# Altium footprint library DIP-CN  0607.PcbLib: 329 footprints (part 6 of 21)
Each footprint in its own frame and in the unit in brackets; x right, y up, seen from the top. Pads: shape width x height; smd on the part's side, far side on the other; paste and mask are expansions set on the pad; w line width, h text height; cw(c..) or ccw(c..) is an arc to the next point about the centre after c.
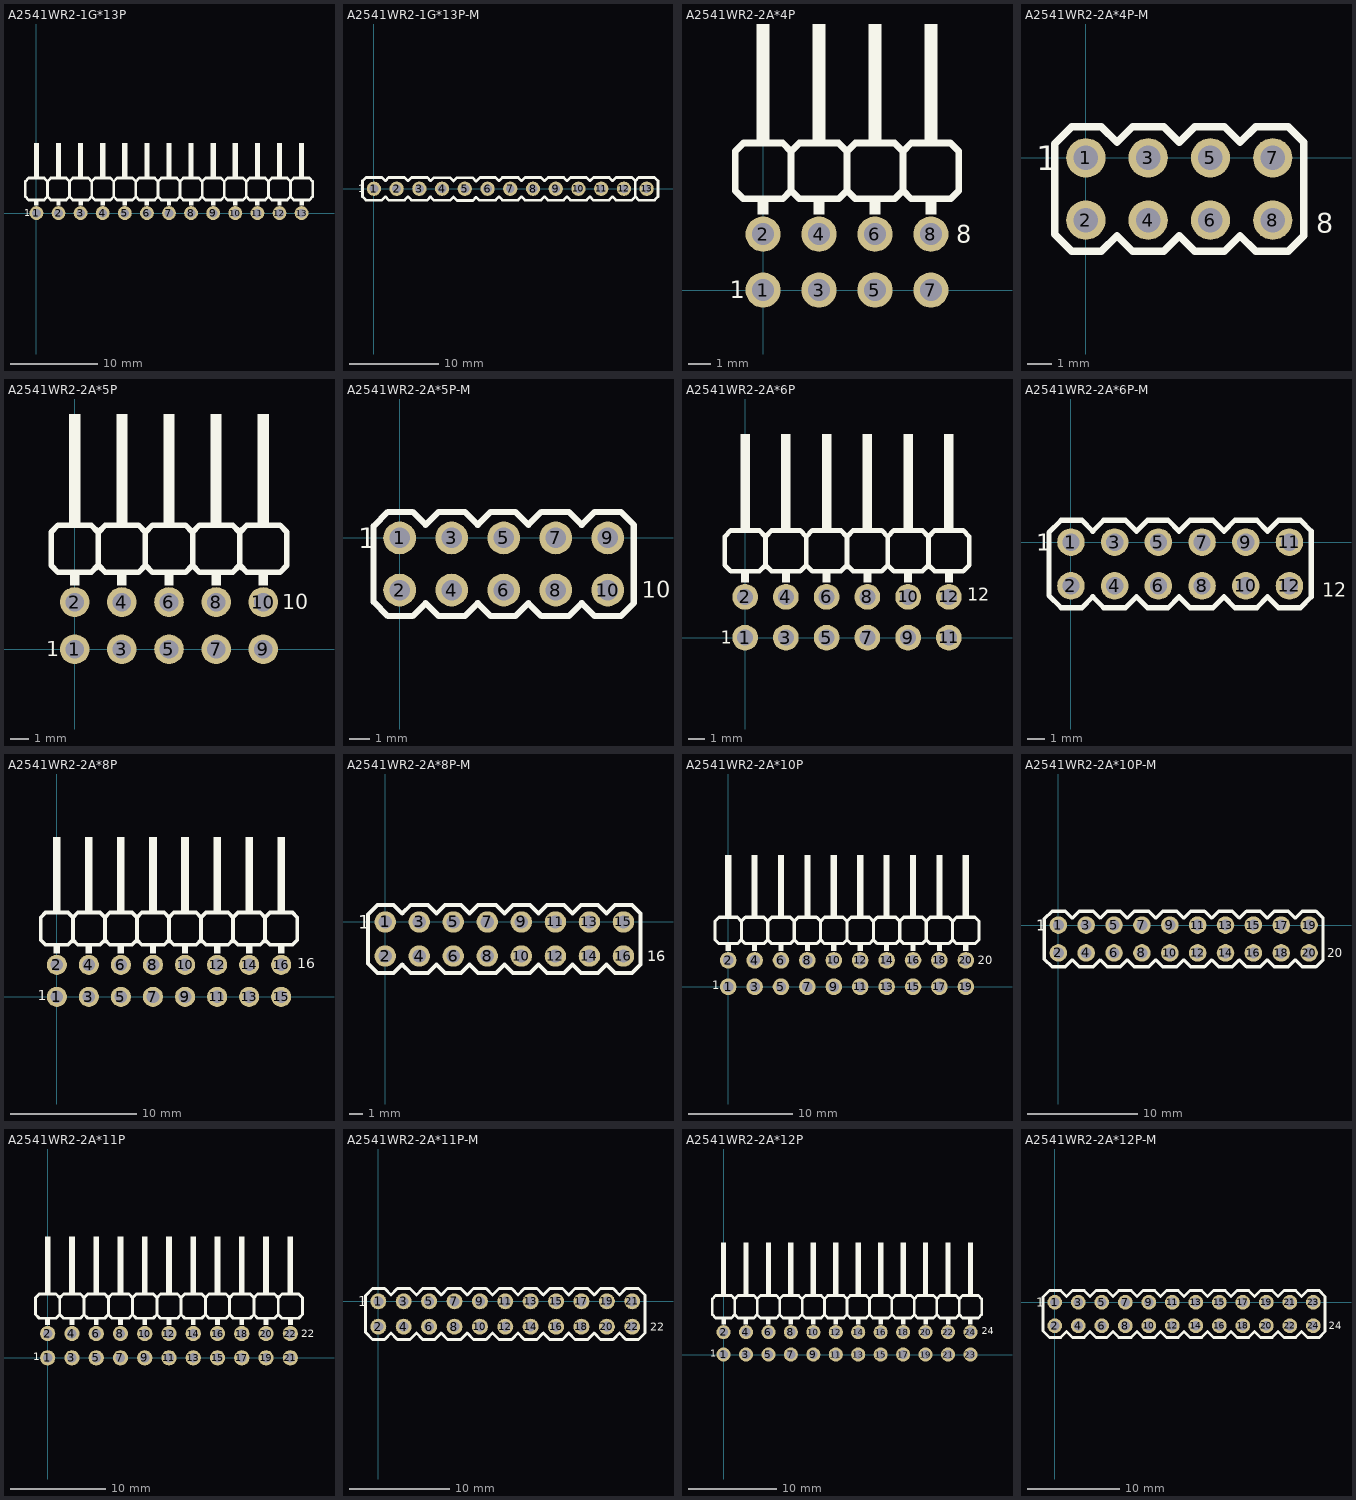
[diagram p5: the footprints below, top view; thin cyan lines are the x and y axes]

## A2541WR2-1G*13P [mm]
pads (13):
  round 1.6 hole 1: 1(0,0) 2(2.54,0) 3(5.08,0) 4(7.62,0) 5(10.16,0) 6(12.7,0) 7(15.24,0) 8(17.78,0) 9(20.32,0) 10(22.86,0) 11(25.4,0) 12(27.94,0) 13(30.48,0)
TopOverlay:
  rectangle: 30.226,0.889 30.734,1.5
  region: 30.78,4.04 30.78,8.04 30.18,8.04 30.18,4.04
  region: 28.24,4.04 28.24,8.04 27.64,8.04 27.64,4.04
  rectangle: 27.686,0.889 28.194,1.5
  rectangle: 25.146,0.889 25.654,1.5
  region: 25.7,4.04 25.7,8.04 25.1,8.04 25.1,4.04
  region: 18.08,4.04 18.08,8.04 17.48,8.04 17.48,4.04
  rectangle: 17.526,0.889 18.034,1.5
  region: 5.38,4.04 5.38,8.04 4.78,8.04 4.78,4.04
  rectangle: 4.826,0.889 5.334,1.5
  rectangle: 2.286,0.889 2.794,1.5
  rectangle: -0.254,0.889 0.254,1.5
  region: 0.3,4.04 0.3,8.04 -0.3,8.04 -0.3,4.04
  region: 2.84,4.04 2.84,8.04 2.24,8.04 2.24,4.04
  rectangle: 7.366,0.889 7.874,1.5
  region: 7.92,4.04 7.92,8.04 7.32,8.04 7.32,4.04
  rectangle: 9.906,0.889 10.414,1.5
  region: 10.46,4.04 10.46,8.04 9.86,8.04 9.86,4.04
  region: 13,4.04 13,8.04 12.4,8.04 12.4,4.04
  rectangle: 12.446,0.889 12.954,1.5
  rectangle: 14.986,0.889 15.494,1.5
  region: 15.54,4.04 15.54,8.04 14.94,8.04 14.94,4.04
  region: 20.62,4.04 20.62,8.04 20.02,8.04 20.02,4.04
  rectangle: 20.066,0.889 20.574,1.5
  rectangle: 22.606,0.889 23.114,1.5
  region: 23.16,4.04 23.16,8.04 22.56,8.04 22.56,4.04
  lines w0.3: -1.27,1.881 -0.889,1.5 0.889,1.5 1.27,1.881 ; -1.27,1.905 -1.27,3.635 ; -1.27,3.659 -0.889,4.04 0.889,4.04 1.27,3.659 ; 3.81,1.905 3.81,3.635 ; 11.43,1.905 11.43,3.635 ; 1.27,1.881 1.27,3.659 ; 1.27,1.881 1.651,1.5 3.429,1.5 3.81,1.881 4.191,1.5 5.969,1.5 6.35,1.881 ; 1.27,1.881 1.27,3.659 ; 1.27,3.659 1.651,4.04 3.429,4.04 3.81,3.659 4.191,4.04 5.969,4.04 6.35,3.659 ; 6.35,1.881 6.35,3.659 ; 6.35,1.881 6.731,1.5 8.509,1.5 8.89,1.881 ; 6.35,3.659 6.731,4.04 8.509,4.04 8.89,3.659 ; 8.89,1.881 8.89,3.659 ; 8.89,1.881 9.271,1.5 11.049,1.5 11.43,1.881 11.811,1.5 13.589,1.5 13.97,1.881 ; 8.89,1.881 8.89,3.659 ; 8.89,3.659 9.271,4.04 11.049,4.04 11.43,3.659 11.811,4.04 13.589,4.04 13.97,3.659 ; 13.97,1.881 13.97,3.659 ; 13.97,1.881 13.97,3.659 ; 13.97,1.881 14.351,1.5 16.129,1.5 16.51,1.881 ; 13.97,3.659 14.351,4.04 16.129,4.04 16.51,3.659 ; 16.51,1.881 16.891,1.5 18.669,1.5 19.05,1.881 ; 16.51,1.881 16.51,3.659 ; 16.51,1.881 16.51,3.659 ; 16.51,3.659 16.891,4.04 18.669,4.04 19.05,3.659 ; 19.05,1.881 19.05,3.659 ; 19.05,1.881 19.05,3.659 ; 19.05,1.881 19.431,1.5 21.209,1.5 21.59,1.881 ; 19.05,3.659 19.431,4.04 21.209,4.04 21.59,3.659 ; 21.59,1.881 21.59,3.659 ; 21.59,1.881 21.59,3.659 ; 21.59,1.881 21.971,1.5 23.749,1.5 24.13,1.881 ; 21.59,3.659 21.971,4.04 23.749,4.04 24.13,3.659 ; 24.13,1.881 24.511,1.5 26.289,1.5 26.67,1.881 ; 24.13,1.881 24.13,3.659 ; 24.13,1.881 24.13,3.659 ; 24.13,3.659 24.511,4.04 26.289,4.04 26.67,3.659 ; 26.67,1.881 27.051,1.5 28.829,1.5 29.21,1.881 ; 26.67,1.881 26.67,3.659 ; 26.67,1.881 26.67,3.659 ; 26.67,3.659 27.051,4.04 28.829,4.04 29.21,3.659 ; 29.21,1.881 29.21,3.659 ; 29.21,1.881 29.21,3.659 ; 29.21,1.881 29.591,1.5 31.369,1.5 31.75,1.881 ; 29.21,1.881 29.21,3.659 ; 29.21,1.881 29.21,3.659 ; 29.21,3.659 29.591,4.04 31.369,4.04 31.75,3.659 ; 31.75,1.881 31.75,3.659 ; 31.75,1.881 31.75,3.659
  text "1" at -1.397,-0.381 h0.8
BottomOverlay:
  lines w0.3: 1.27,-0.762 1.27,0.762 ; 3.81,-0.762 3.81,0.762 ; 6.35,-0.762 6.35,0.762 ; 8.89,-0.762 8.89,0.762 ; 11.43,-0.762 11.43,0.762 ; 13.97,-0.762 13.97,0.762 ; 16.51,-0.762 16.51,0.762 ; 19.05,-0.762 19.05,0.762 ; 21.59,-0.762 21.59,0.762 ; 24.13,-0.762 24.13,0.762 ; 26.67,-0.762 26.67,0.762 ; 29.21,-0.762 29.21,0.762

## A2541WR2-1G*13P-M [mm]
pads (13):
  round 1.6 hole 1: 1(0,0) 2(2.54,0) 3(5.08,0) 4(7.62,0) 5(10.16,0) 6(12.7,0) 7(15.24,0) 8(17.78,0) 9(20.32,0) 10(22.86,0) 11(25.4,0) 12(27.94,0) 13(30.48,0)
TopOverlay:
  lines w0.3: 6.35,-0.914 6.731,-1.295 8.509,-1.295 8.89,-0.914 9.296,-1.321 11.049,-1.321 11.43,-0.94 11.76,-1.27 13.589,-1.27 13.97,-0.889 14.351,-1.27 16.129,-1.27 16.51,-0.889 16.891,-1.27 18.669,-1.27 19.05,-0.889 19.431,-1.27 21.209,-1.27 21.59,-0.889 21.971,-1.27 23.749,-1.27 24.13,-0.889 24.511,-1.27 26.289,-1.27 26.67,-0.889 27.051,-1.27 28.829,-1.27 29.21,-0.889 ; 6.35,-0.889 5.969,-1.27 4.191,-1.27 3.81,-0.889 3.429,-1.27 1.651,-1.27 1.27,-0.889 0.889,-1.27 -0.889,-1.27 -1.27,-0.889 -1.27,0.889 -0.889,1.27 0.889,1.27 1.27,0.889 1.651,1.27 3.429,1.27 3.81,0.889 4.191,1.27 5.969,1.27 6.35,0.889 6.706,1.245 ; 6.731,1.245 8.509,1.245 8.89,0.864 9.246,1.219 11.049,1.219 11.43,0.838 11.862,1.27 13.589,1.27 13.97,0.889 14.351,1.27 16.129,1.27 16.51,0.889 16.891,1.27 18.669,1.27 19.05,0.889 19.482,1.27 21.209,1.27 21.59,0.889 21.971,1.27 23.749,1.27 24.13,0.889 24.562,1.27 26.289,1.27 26.67,0.889 27.051,1.27 28.829,1.27 29.21,0.889 ; 29.21,-0.889 29.21,0.889 ; 29.21,-0.889 29.591,-1.27 31.369,-1.27 31.75,-0.889 31.75,0.889 31.369,1.27 29.591,1.27 29.21,0.889
  text "1" at -1.778,-0.381 h0.8
BottomOverlay:
  lines w0.3: 1.27,-0.762 1.27,0.762 ; 3.81,-0.762 3.81,0.762 ; 6.35,-0.762 6.35,0.762 ; 8.89,-0.762 8.89,0.762 ; 11.43,-0.762 11.43,0.762 ; 13.97,-0.762 13.97,0.762 ; 16.51,-0.762 16.51,0.762 ; 19.05,-0.762 19.05,0.762 ; 21.59,-0.762 21.59,0.762 ; 24.13,-0.762 24.13,0.762 ; 26.67,-0.762 26.67,0.762 ; 29.21,-0.762 29.21,0.762

## A2541WR2-2A*4P [mm]
pads (8):
  round 1.6 hole 1: 1(0,0) 2(0,2.54) 3(2.54,0) 4(2.54,2.54) 5(5.08,0) 6(5.08,2.54) 7(7.62,0) 8(7.62,2.54)
TopOverlay:
  region: 7.92,6.68 7.92,12.68 7.32,12.68 7.32,6.68
  region: 5.38,6.68 5.38,12.68 4.78,12.68 4.78,6.68
  region: 2.84,6.68 2.84,12.68 2.24,12.68 2.24,6.68
  region: 0.3,6.68 0.3,12.68 -0.3,12.68 -0.3,6.68
  rectangle: 7.366,3.429 7.874,4.04
  rectangle: -0.254,3.429 0.254,4.04
  rectangle: 2.286,3.429 2.794,4.04
  rectangle: 4.826,3.429 5.334,4.04
  lines w0.3: 1.27,4.521 1.651,4.14 3.429,4.14 3.81,4.521 ; 1.27,4.521 0.889,4.14 -0.889,4.14 -1.27,4.521 -1.27,6.299 -0.889,6.68 0.889,6.68 1.27,6.299 ; 1.27,4.521 1.27,6.299 ; 1.27,6.299 1.651,6.68 3.429,6.68 3.81,6.299 ; 3.81,4.521 3.81,6.299 ; 3.81,4.521 4.191,4.14 5.969,4.14 6.35,4.521 ; 3.81,6.299 4.191,6.68 5.969,6.68 6.35,6.299 ; 6.35,4.521 6.35,6.299 ; 6.35,4.521 6.731,4.14 8.509,4.14 8.89,4.521 8.89,6.299 8.509,6.68 6.731,6.68 6.35,6.299
  text "1" at -1.524,-0.381 h0.8
  text "8" at 8.763,2.159 h0.8
BottomOverlay:
  lines w0.3: -1.27,1.27 8.636,1.27 ; 1.27,-0.762 1.27,3.302 ; 3.81,-0.762 3.81,3.302 ; 6.35,-0.762 6.35,3.302

## A2541WR2-2A*4P-M [mm]
pads (8):
  round 1.6 hole 1: 1(0,0) 2(0,-2.54) 3(2.54,0) 4(2.54,-2.54) 5(5.08,0) 6(5.08,-2.54) 7(7.62,0) 8(7.62,-2.54)
TopOverlay:
  lines w0.3: -1.27,-3.11 -1.27,0.57 -0.57,1.27 0.635,1.27 1.27,0.635 1.905,1.27 3.175,1.27 3.81,0.635 4.445,1.27 5.65,1.27 6.285,0.635 6.92,1.27 8.255,1.27 8.89,0.635 8.89,-3.175 8.255,-3.81 6.92,-3.81 6.285,-3.175 5.65,-3.81 4.445,-3.81 3.81,-3.175 3.175,-3.81 1.905,-3.81 1.27,-3.175 0.635,-3.81 -0.57,-3.81 -1.27,-3.11
  text "1" at -2.032,-0.508 h1
  text "8" at 9.398,-3.048 h0.8
BottomOverlay:
  lines w0.3: -1.27,-1.27 8.89,-1.27 ; 1.27,-3.302 1.27,0.762 ; 3.81,-3.302 3.81,0.762 ; 6.35,-3.302 6.35,0.762

## A2541WR2-2A*5P [mm]
pads (10):
  round 1.6 hole 1: 1(0,0) 2(0,2.54) 3(2.54,0) 4(2.54,2.54) 5(5.08,0) 6(5.08,2.54) 7(7.62,0) 8(7.62,2.54) 9(10.16,0) 10(10.16,2.54)
TopOverlay:
  region: 10.46,6.68 10.46,12.68 9.86,12.68 9.86,6.68
  region: 7.92,6.68 7.92,12.68 7.32,12.68 7.32,6.68
  region: 5.38,6.68 5.38,12.68 4.78,12.68 4.78,6.68
  region: 2.84,6.68 2.84,12.68 2.24,12.68 2.24,6.68
  region: 0.3,6.68 0.3,12.68 -0.3,12.68 -0.3,6.68
  rectangle: 9.906,3.429 10.414,4.04
  rectangle: 7.366,3.429 7.874,4.04
  rectangle: -0.254,3.429 0.254,4.04
  rectangle: 2.286,3.429 2.794,4.04
  rectangle: 4.826,3.429 5.334,4.04
  lines w0.3: 1.27,4.521 1.651,4.14 3.429,4.14 3.81,4.521 ; 1.27,4.521 0.889,4.14 -0.889,4.14 -1.27,4.521 -1.27,6.299 -0.889,6.68 0.889,6.68 1.27,6.299 ; 1.27,4.521 1.27,6.299 ; 1.27,6.299 1.651,6.68 3.429,6.68 3.81,6.299 ; 3.81,4.521 3.81,6.299 ; 3.81,4.521 4.191,4.14 5.969,4.14 6.35,4.521 ; 3.81,6.299 4.191,6.68 5.969,6.68 6.35,6.299 ; 6.35,4.521 6.35,6.299 ; 6.35,4.521 6.731,4.14 8.509,4.14 8.89,4.521 ; 6.35,6.299 6.731,6.68 8.509,6.68 8.89,6.299 ; 8.89,4.521 8.89,6.299 ; 8.89,4.521 9.271,4.14 11.049,4.14 11.43,4.521 11.43,6.299 11.049,6.68 9.271,6.68 8.89,6.299
  text "1" at -1.524,-0.381 h0.8
  text "10" at 11.176,2.159 h0.8
BottomOverlay:
  lines w0.3: -1.27,1.27 11.43,1.27 ; 1.27,-0.762 1.27,3.302 ; 3.81,-0.762 3.81,3.302 ; 6.35,-0.762 6.35,3.302 ; 8.89,-0.762 8.89,3.302

## A2541WR2-2A*5P-M [mm]
pads (10):
  round 1.6 hole 1: 1(0,0) 2(0,-2.54) 3(2.54,0) 4(2.54,-2.54) 5(5.08,0) 6(5.08,-2.54) 7(7.62,0) 8(7.62,-2.54) 9(10.16,0) 10(10.16,-2.54)
TopOverlay:
  lines w0.3: -1.27,-3.11 -0.57,-3.81 0.635,-3.81 1.27,-3.175 1.905,-3.81 3.175,-3.81 3.81,-3.175 4.445,-3.81 5.65,-3.81 6.285,-3.175 6.92,-3.81 8.255,-3.81 8.89,-3.175 9.525,-3.81 10.795,-3.81 11.43,-3.175 11.43,0.635 10.795,1.27 9.525,1.27 8.89,0.635 8.255,1.27 6.92,1.27 6.285,0.635 5.65,1.27 4.445,1.27 3.81,0.635 3.175,1.27 1.905,1.27 1.27,0.635 0.635,1.27 -0.57,1.27 -1.27,0.57 -1.27,-3.11
  text "10" at 11.811,-2.921 h0.8
  text "1" at -2.032,-0.508 h1
BottomOverlay:
  lines w0.3: -1.27,-1.27 11.43,-1.27 ; 1.27,-3.302 1.27,0.762 ; 3.81,-3.302 3.81,0.762 ; 6.35,-3.302 6.35,0.762 ; 8.89,-3.302 8.89,0.762

## A2541WR2-2A*6P [mm]
pads (12):
  round 1.6 hole 1: 1(0,0) 2(0,2.54) 3(2.54,0) 4(2.54,2.54) 5(5.08,0) 6(5.08,2.54) 7(7.62,0) 8(7.62,2.54) 9(10.16,0) 10(10.16,2.54) 11(12.7,0) 12(12.7,2.54)
TopOverlay:
  region: 10.46,6.68 10.46,12.68 9.86,12.68 9.86,6.68
  region: 7.92,6.68 7.92,12.68 7.32,12.68 7.32,6.68
  region: 5.38,6.68 5.38,12.68 4.78,12.68 4.78,6.68
  region: 2.84,6.68 2.84,12.68 2.24,12.68 2.24,6.68
  region: 0.3,6.68 0.3,12.68 -0.3,12.68 -0.3,6.68
  rectangle: 9.906,3.429 10.414,4.04
  rectangle: 7.366,3.429 7.874,4.04
  rectangle: -0.254,3.429 0.254,4.04
  rectangle: 2.286,3.429 2.794,4.04
  rectangle: 4.826,3.429 5.334,4.04
  rectangle: 12.446,3.429 12.954,4.04
  region: 13,6.68 13,12.68 12.4,12.68 12.4,6.68
  lines w0.3: 1.27,4.521 1.651,4.14 3.429,4.14 3.81,4.521 ; 1.27,4.521 0.889,4.14 -0.889,4.14 -1.27,4.521 -1.27,6.299 -0.889,6.68 0.889,6.68 1.27,6.299 ; 1.27,4.521 1.27,6.299 ; 1.27,6.299 1.651,6.68 3.429,6.68 3.81,6.299 ; 3.81,4.521 3.81,6.299 ; 3.81,4.521 4.191,4.14 5.969,4.14 6.35,4.521 ; 3.81,6.299 4.191,6.68 5.969,6.68 6.35,6.299 ; 6.35,4.521 6.35,6.299 ; 6.35,4.521 6.731,4.14 8.509,4.14 8.89,4.521 ; 6.35,6.299 6.731,6.68 8.509,6.68 8.89,6.299 ; 8.89,4.521 8.89,6.299 ; 8.89,4.521 9.271,4.14 11.049,4.14 11.43,4.521 ; 8.89,6.299 9.271,6.68 11.049,6.68 11.43,6.299 ; 11.43,4.521 11.43,6.299 ; 11.43,4.521 11.811,4.14 13.589,4.14 13.97,4.521 13.97,6.299 13.589,6.68 11.811,6.68 11.43,6.299
  text "1" at -1.524,-0.381 h0.8
  text "12" at 13.843,2.286 h0.8
BottomOverlay:
  lines w0.3: -1.27,1.27 13.97,1.27 ; 1.27,-0.762 1.27,3.302 ; 3.81,-0.762 3.81,3.302 ; 6.35,-0.762 6.35,3.302 ; 8.89,-0.762 8.89,3.302 ; 11.43,-0.762 11.43,3.302

## A2541WR2-2A*6P-M [mm]
pads (12):
  round 1.6 hole 1: 1(0,0) 2(0,-2.54) 3(2.54,0) 4(2.54,-2.54) 5(5.08,0) 6(5.08,-2.54) 7(7.62,0) 8(7.62,-2.54) 9(10.16,0) 10(10.16,-2.54) 11(12.7,0) 12(12.7,-2.54)
TopOverlay:
  lines w0.3: -1.27,-3.11 -1.27,0.57 -0.57,1.27 0.635,1.27 1.27,0.635 1.905,1.27 3.175,1.27 3.81,0.635 4.445,1.27 5.65,1.27 6.285,0.635 6.92,1.27 8.255,1.27 8.89,0.635 9.525,1.27 10.795,1.27 11.43,0.635 12.065,1.27 13.335,1.27 13.97,0.635 13.97,-3.175 13.335,-3.81 12.065,-3.81 11.43,-3.175 10.795,-3.81 9.525,-3.81 8.89,-3.175 8.255,-3.81 6.92,-3.81 6.285,-3.175 5.65,-3.81 4.445,-3.81 3.81,-3.175 3.175,-3.81 1.905,-3.81 1.27,-3.175 0.635,-3.81 -0.57,-3.81 -1.27,-3.11
  text "1" at -2.032,-0.508 h1
  text "12" at 14.605,-3.175 h0.8
BottomOverlay:
  lines w0.3: -1.27,-1.27 13.97,-1.27 ; 1.27,-3.302 1.27,0.762 ; 3.81,-3.302 3.81,0.762 ; 6.35,-3.302 6.35,0.762 ; 8.89,-3.302 8.89,0.762 ; 11.43,-3.302 11.43,0.762

## A2541WR2-2A*8P [mm]
pads (16):
  round 1.6 hole 1: 1(0,0) 2(0,2.54) 3(2.54,0) 4(2.54,2.54) 5(5.08,0) 6(5.08,2.54) 7(7.62,0) 8(7.62,2.54) 9(10.16,0) 10(10.16,2.54) 11(12.7,0) 12(12.7,2.54) 13(15.24,0) 14(15.24,2.54) 15(17.78,0) 16(17.78,2.54)
TopOverlay:
  region: 18.08,6.68 18.08,12.68 17.48,12.68 17.48,6.68
  region: 15.54,6.68 15.54,12.68 14.94,12.68 14.94,6.68
  region: 13,6.68 13,12.68 12.4,12.68 12.4,6.68
  region: 10.46,6.68 10.46,12.68 9.86,12.68 9.86,6.68
  region: 7.92,6.68 7.92,12.68 7.32,12.68 7.32,6.68
  region: 5.38,6.68 5.38,12.68 4.78,12.68 4.78,6.68
  region: 2.84,6.68 2.84,12.68 2.24,12.68 2.24,6.68
  region: 0.3,6.68 0.3,12.68 -0.3,12.68 -0.3,6.68
  rectangle: 12.446,3.429 12.954,4.04
  rectangle: 9.906,3.429 10.414,4.04
  rectangle: 7.366,3.429 7.874,4.04
  rectangle: -0.254,3.429 0.254,4.04
  rectangle: 2.286,3.429 2.794,4.04
  rectangle: 4.826,3.429 5.334,4.04
  rectangle: 17.526,3.429 18.034,4.04
  rectangle: 14.986,3.429 15.494,4.04
  rectangle: 12.446,3.429 12.954,4.04
  lines w0.3: 1.27,4.521 1.651,4.14 3.429,4.14 3.81,4.521 ; 1.27,4.521 0.889,4.14 -0.889,4.14 -1.27,4.521 -1.27,6.299 -0.889,6.68 0.889,6.68 1.27,6.299 ; 1.27,4.521 1.27,6.299 ; 1.27,6.299 1.651,6.68 3.429,6.68 3.81,6.299 ; 3.81,4.521 3.81,6.299 ; 3.81,4.521 4.191,4.14 5.969,4.14 6.35,4.521 ; 3.81,6.299 4.191,6.68 5.969,6.68 6.35,6.299 ; 6.35,4.521 6.35,6.299 ; 6.35,4.521 6.731,4.14 8.509,4.14 8.89,4.521 ; 6.35,6.299 6.731,6.68 8.509,6.68 8.89,6.299 ; 8.89,4.521 8.89,6.299 ; 8.89,4.521 9.271,4.14 11.049,4.14 11.43,4.521 ; 8.89,6.299 9.271,6.68 11.049,6.68 11.43,6.299 ; 11.43,4.521 11.43,6.299 ; 11.43,4.521 11.811,4.14 13.589,4.14 13.97,4.521 ; 11.43,6.299 11.811,6.68 13.589,6.68 13.97,6.299 ; 13.97,4.521 13.97,6.299 ; 13.97,4.521 14.351,4.14 16.129,4.14 16.51,4.521 ; 13.97,6.299 14.351,6.68 16.129,6.68 16.51,6.299 ; 16.51,4.521 16.51,6.299 ; 16.51,4.521 16.891,4.14 18.669,4.14 19.05,4.521 19.05,6.299 18.669,6.68 16.891,6.68 16.51,6.299
  text "1" at -1.524,-0.254 h0.8
  text "16" at 19.05,2.286 h0.8
BottomOverlay:
  lines w0.3: -1.27,1.27 18.923,1.27 ; 1.27,-0.762 1.27,3.302 ; 3.81,-0.762 3.81,3.302 ; 6.35,-0.762 6.35,3.302 ; 8.89,-0.762 8.89,3.302 ; 11.43,-0.762 11.43,3.302 ; 13.97,-0.762 13.97,3.302 ; 16.51,-0.762 16.51,3.302

## A2541WR2-2A*8P-M [mm]
pads (16):
  round 1.6 hole 1: 1(0,0) 2(0,-2.54) 3(2.54,0) 4(2.54,-2.54) 5(5.08,0) 6(5.08,-2.54) 7(7.62,0) 8(7.62,-2.54) 9(10.16,0) 10(10.16,-2.54) 11(12.7,0) 12(12.7,-2.54) 13(15.24,0) 14(15.24,-2.54) 15(17.78,0) 16(17.78,-2.54)
TopOverlay:
  lines w0.3: -1.27,-3.11 -0.57,-3.81 0.635,-3.81 1.27,-3.175 1.905,-3.81 3.175,-3.81 3.81,-3.175 4.445,-3.81 5.65,-3.81 6.285,-3.175 6.92,-3.81 8.255,-3.81 8.89,-3.175 9.525,-3.81 10.795,-3.81 11.43,-3.175 12.065,-3.81 13.335,-3.81 13.97,-3.175 14.605,-3.81 15.875,-3.81 16.51,-3.175 17.145,-3.81 18.415,-3.81 19.05,-3.175 19.05,0.635 18.415,1.27 17.145,1.27 16.51,0.635 15.875,1.27 14.605,1.27 13.97,0.635 13.335,1.27 12.065,1.27 11.43,0.635 10.795,1.27 9.525,1.27 8.89,0.635 8.255,1.27 6.92,1.27 6.285,0.635 5.65,1.27 4.445,1.27 3.81,0.635 3.175,1.27 1.905,1.27 1.27,0.635 0.635,1.27 -0.57,1.27 -1.27,0.57 -1.27,-3.11
  text "16" at 19.558,-2.921 h0.8
  text "1" at -2.032,-0.508 h1
BottomOverlay:
  lines w0.3: -1.27,-1.27 18.923,-1.27 ; 1.27,-3.302 1.27,0.762 ; 3.81,-3.302 3.81,0.762 ; 6.35,-3.302 6.35,0.762 ; 8.89,-3.302 8.89,0.762 ; 11.43,-3.302 11.43,0.762 ; 13.97,-3.302 13.97,0.762 ; 16.51,-3.302 16.51,0.762

## A2541WR2-2A*10P [mm]
pads (20):
  round 1.6 hole 1: 1(0,0) 2(0,2.54) 3(2.54,0) 4(2.54,2.54) 5(5.08,0) 6(5.08,2.54) 7(7.62,0) 8(7.62,2.54) 9(10.16,0) 10(10.16,2.54) 11(12.7,0) 12(12.7,2.54) 13(15.24,0) 14(15.24,2.54) 15(17.78,0) 16(17.78,2.54) 17(20.32,0) 18(20.32,2.54) 19(22.86,0) 20(22.86,2.54)
TopOverlay:
  region: 23.16,6.68 23.16,12.68 22.56,12.68 22.56,6.68
  region: 20.62,6.68 20.62,12.68 20.02,12.68 20.02,6.68
  region: 18.08,6.68 18.08,12.68 17.48,12.68 17.48,6.68
  region: 15.54,6.68 15.54,12.68 14.94,12.68 14.94,6.68
  region: 13,6.68 13,12.68 12.4,12.68 12.4,6.68
  region: 10.46,6.68 10.46,12.68 9.86,12.68 9.86,6.68
  region: 7.92,6.68 7.92,12.68 7.32,12.68 7.32,6.68
  region: 5.38,6.68 5.38,12.68 4.78,12.68 4.78,6.68
  region: 2.84,6.68 2.84,12.68 2.24,12.68 2.24,6.68
  region: 0.3,6.68 0.3,12.68 -0.3,12.68 -0.3,6.68
  rectangle: 22.606,3.429 23.114,4.04
  rectangle: 20.066,3.429 20.574,4.04
  rectangle: 12.446,3.429 12.954,4.04
  rectangle: 14.986,3.429 15.494,4.04
  rectangle: 17.526,3.429 18.034,4.04
  rectangle: 4.826,3.429 5.334,4.04
  rectangle: 2.286,3.429 2.794,4.04
  rectangle: -0.254,3.429 0.254,4.04
  rectangle: 7.366,3.429 7.874,4.04
  rectangle: 9.906,3.429 10.414,4.04
  rectangle: 12.446,3.429 12.954,4.04
  lines w0.3: 1.27,4.521 1.27,6.299 ; 1.27,4.521 0.889,4.14 -0.889,4.14 -1.27,4.521 -1.27,6.299 -0.889,6.68 0.889,6.68 1.27,6.299 ; 1.27,4.521 1.651,4.14 3.429,4.14 3.81,4.521 ; 1.27,6.299 1.651,6.68 3.429,6.68 3.81,6.299 ; 3.81,4.521 4.191,4.14 5.969,4.14 6.35,4.521 ; 3.81,4.521 3.81,6.299 ; 3.81,6.299 4.191,6.68 5.969,6.68 6.35,6.299 ; 6.35,4.521 6.731,4.14 8.509,4.14 8.89,4.521 ; 6.35,4.521 6.35,6.299 ; 6.35,6.299 6.731,6.68 8.509,6.68 8.89,6.299 ; 8.89,4.521 9.271,4.14 11.049,4.14 11.43,4.521 ; 8.89,4.521 8.89,6.299 ; 8.89,6.299 9.271,6.68 11.049,6.68 11.43,6.299 ; 11.43,4.521 11.811,4.14 13.589,4.14 13.97,4.521 ; 11.43,4.521 11.43,6.299 ; 11.43,6.299 11.811,6.68 13.589,6.68 13.97,6.299 ; 13.97,4.521 14.351,4.14 16.129,4.14 16.51,4.521 ; 13.97,4.521 13.97,6.299 ; 13.97,6.299 14.351,6.68 16.129,6.68 16.51,6.299 ; 16.51,4.521 16.891,4.14 18.669,4.14 19.05,4.521 ; 16.51,4.521 16.51,6.299 ; 16.51,6.299 16.891,6.68 18.669,6.68 19.05,6.299 ; 19.05,4.521 19.431,4.14 21.209,4.14 21.59,4.521 ; 19.05,4.521 19.05,6.299 ; 19.05,6.299 19.431,6.68 21.209,6.68 21.59,6.299 ; 21.59,4.521 21.971,4.14 23.749,4.14 24.13,4.521 24.13,6.299 23.749,6.68 21.971,6.68 21.59,6.299 ; 21.59,4.521 21.59,6.299
  text "20" at 24.003,2.159 h0.8
  text "1" at -1.524,-0.254 h0.8
BottomOverlay:
  lines w0.3: -1.27,1.27 24.13,1.27 ; 1.27,-0.762 1.27,3.302 ; 3.81,-0.762 3.81,3.302 ; 6.35,-0.762 6.35,3.302 ; 8.89,-0.762 8.89,3.302 ; 11.43,-0.762 11.43,3.302 ; 13.97,-0.762 13.97,3.302 ; 16.51,-0.762 16.51,3.302 ; 19.05,-0.762 19.05,3.302 ; 21.59,-0.762 21.59,3.302

## A2541WR2-2A*10P-M [mm]
pads (20):
  round 1.6 hole 1: 1(0,0) 2(0,-2.54) 3(2.54,0) 4(2.54,-2.54) 5(5.08,0) 6(5.08,-2.54) 7(7.62,0) 8(7.62,-2.54) 9(10.16,0) 10(10.16,-2.54) 11(12.7,0) 12(12.7,-2.54) 13(15.24,0) 14(15.24,-2.54) 15(17.78,0) 16(17.78,-2.54) 17(20.32,0) 18(20.32,-2.54) 19(22.86,0) 20(22.86,-2.54)
TopOverlay:
  lines w0.3: -1.27,-3.11 -1.27,0.57 -0.57,1.27 0.635,1.27 1.27,0.635 1.905,1.27 3.175,1.27 3.81,0.635 4.445,1.27 5.65,1.27 6.285,0.635 6.92,1.27 8.255,1.27 8.89,0.635 9.525,1.27 10.795,1.27 11.43,0.635 12.065,1.27 13.335,1.27 13.97,0.635 14.605,1.27 15.875,1.27 16.51,0.635 17.145,1.27 18.415,1.27 19.05,0.635 19.685,1.27 20.955,1.27 21.59,0.635 22.225,1.27 23.495,1.27 24.13,0.635 24.13,-3.175 23.495,-3.81 22.225,-3.81 21.59,-3.175 20.955,-3.81 19.685,-3.81 19.05,-3.175 18.415,-3.81 17.145,-3.81 16.51,-3.175 15.875,-3.81 14.605,-3.81 13.97,-3.175 13.335,-3.81 12.065,-3.81 11.43,-3.175 10.795,-3.81 9.525,-3.81 8.89,-3.175 8.255,-3.81 6.92,-3.81 6.285,-3.175 5.65,-3.81 4.445,-3.81 3.81,-3.175 3.175,-3.81 1.905,-3.81 1.27,-3.175 0.635,-3.81 -0.57,-3.81 -1.27,-3.11
  text "1" at -2.032,-0.508 h1
  text "20" at 24.511,-2.921 h0.8
BottomOverlay:
  lines w0.3: -1.27,-1.27 24.13,-1.27 ; 1.27,-3.302 1.27,0.762 ; 3.81,-3.302 3.81,0.762 ; 6.35,-3.302 6.35,0.762 ; 8.89,-3.302 8.89,0.762 ; 11.43,-3.302 11.43,0.762 ; 13.97,-3.302 13.97,0.762 ; 16.51,-3.302 16.51,0.762 ; 19.05,-3.302 19.05,0.762 ; 21.59,-3.302 21.59,0.762

## A2541WR2-2A*11P [mm]
pads (22):
  round 1.6 hole 1: 1(0,0) 2(0,2.54) 3(2.54,0) 4(2.54,2.54) 5(5.08,0) 6(5.08,2.54) 7(7.62,0) 8(7.62,2.54) 9(10.16,0) 10(10.16,2.54) 11(12.7,0) 12(12.7,2.54) 13(15.24,0) 14(15.24,2.54) 15(17.78,0) 16(17.78,2.54) 17(20.32,0) 18(20.32,2.54) 19(22.86,0) 20(22.86,2.54) 21(25.4,0) 22(25.4,2.54)
TopOverlay:
  rectangle: 25.146,3.429 25.654,4.04
  rectangle: 22.606,3.429 23.114,4.04
  rectangle: 20.066,3.429 20.574,4.04
  rectangle: 12.446,3.429 12.954,4.04
  rectangle: 14.986,3.429 15.494,4.04
  rectangle: 17.526,3.429 18.034,4.04
  rectangle: 4.826,3.429 5.334,4.04
  rectangle: 2.286,3.429 2.794,4.04
  rectangle: -0.254,3.429 0.254,4.04
  rectangle: 7.366,3.429 7.874,4.04
  rectangle: 9.906,3.429 10.414,4.04
  rectangle: 12.446,3.429 12.954,4.04
  region: 0.3,6.68 0.3,12.68 -0.3,12.68 -0.3,6.68
  region: 2.84,6.68 2.84,12.68 2.24,12.68 2.24,6.68
  region: 5.38,6.68 5.38,12.68 4.78,12.68 4.78,6.68
  region: 7.92,6.68 7.92,12.68 7.32,12.68 7.32,6.68
  region: 10.46,6.68 10.46,12.68 9.86,12.68 9.86,6.68
  region: 13,6.68 13,12.68 12.4,12.68 12.4,6.68
  region: 15.54,6.68 15.54,12.68 14.94,12.68 14.94,6.68
  region: 18.08,6.68 18.08,12.68 17.48,12.68 17.48,6.68
  region: 20.62,6.68 20.62,12.68 20.02,12.68 20.02,6.68
  region: 23.16,6.68 23.16,12.68 22.56,12.68 22.56,6.68
  region: 25.7,6.68 25.7,12.68 25.1,12.68 25.1,6.68
  lines w0.3: 1.27,4.521 1.27,6.299 ; 1.27,4.521 0.889,4.14 -0.889,4.14 -1.27,4.521 -1.27,6.299 -0.889,6.68 0.889,6.68 1.27,6.299 ; 1.27,4.521 1.651,4.14 3.429,4.14 3.81,4.521 ; 1.27,6.299 1.651,6.68 3.429,6.68 3.81,6.299 ; 3.81,4.521 4.191,4.14 5.969,4.14 6.35,4.521 ; 3.81,4.521 3.81,6.299 ; 3.81,6.299 4.191,6.68 5.969,6.68 6.35,6.299 ; 6.35,4.521 6.731,4.14 8.509,4.14 8.89,4.521 ; 6.35,4.521 6.35,6.299 ; 6.35,6.299 6.731,6.68 8.509,6.68 8.89,6.299 ; 8.89,4.521 9.271,4.14 11.049,4.14 11.43,4.521 ; 8.89,4.521 8.89,6.299 ; 8.89,6.299 9.271,6.68 11.049,6.68 11.43,6.299 ; 11.43,4.521 11.811,4.14 13.589,4.14 13.97,4.521 ; 11.43,4.521 11.43,6.299 ; 11.43,6.299 11.811,6.68 13.589,6.68 13.97,6.299 ; 13.97,4.521 14.351,4.14 16.129,4.14 16.51,4.521 ; 13.97,4.521 13.97,6.299 ; 13.97,6.299 14.351,6.68 16.129,6.68 16.51,6.299 ; 16.51,4.521 16.891,4.14 18.669,4.14 19.05,4.521 ; 16.51,4.521 16.51,6.299 ; 16.51,6.299 16.891,6.68 18.669,6.68 19.05,6.299 ; 19.05,4.521 19.431,4.14 21.209,4.14 21.59,4.521 ; 19.05,4.521 19.05,6.299 ; 19.05,6.299 19.431,6.68 21.209,6.68 21.59,6.299 ; 21.59,4.521 21.971,4.14 23.749,4.14 24.13,4.521 ; 21.59,4.521 21.59,6.299 ; 21.59,6.299 21.971,6.68 23.749,6.68 24.13,6.299 ; 24.13,4.521 24.511,4.14 26.289,4.14 26.67,4.521 26.67,6.299 26.289,6.68 24.511,6.68 24.13,6.299 ; 24.13,4.521 24.13,6.299
  text "22" at 26.543,2.159 h0.8
  text "1" at -1.524,-0.254 h0.8
BottomOverlay:
  lines w0.3: -1.27,1.27 26.67,1.27 ; 1.27,-0.762 1.27,3.302 ; 3.81,-0.762 3.81,3.302 ; 6.35,-0.762 6.35,3.302 ; 8.89,-0.762 8.89,3.302 ; 11.43,-0.762 11.43,3.302 ; 13.97,-0.762 13.97,3.302 ; 16.51,-0.762 16.51,3.302 ; 19.05,-0.762 19.05,3.302 ; 21.59,-0.762 21.59,3.302 ; 24.13,-0.762 24.13,3.302

## A2541WR2-2A*11P-M [mm]
pads (22):
  round 1.6 hole 1: 1(0,0) 2(0,-2.54) 3(2.54,0) 4(2.54,-2.54) 5(5.08,0) 6(5.08,-2.54) 7(7.62,0) 8(7.62,-2.54) 9(10.16,0) 10(10.16,-2.54) 11(12.7,0) 12(12.7,-2.54) 13(15.24,0) 14(15.24,-2.54) 15(17.78,0) 16(17.78,-2.54) 17(20.32,0) 18(20.32,-2.54) 19(22.86,0) 20(22.86,-2.54) 21(25.4,0) 22(25.4,-2.54)
TopOverlay:
  lines w0.3: -1.27,-3.11 -0.57,-3.81 0.635,-3.81 1.27,-3.175 1.905,-3.81 3.175,-3.81 3.81,-3.175 4.445,-3.81 5.65,-3.81 6.285,-3.175 6.92,-3.81 8.255,-3.81 8.89,-3.175 9.525,-3.81 10.795,-3.81 11.43,-3.175 12.065,-3.81 13.335,-3.81 13.97,-3.175 14.605,-3.81 15.875,-3.81 16.51,-3.175 17.145,-3.81 18.415,-3.81 19.05,-3.175 19.685,-3.81 20.955,-3.81 21.59,-3.175 22.225,-3.81 23.495,-3.81 24.13,-3.175 24.765,-3.81 26.035,-3.81 26.67,-3.175 26.67,0.635 26.035,1.27 24.765,1.27 24.13,0.635 23.495,1.27 22.225,1.27 21.59,0.635 20.955,1.27 19.685,1.27 19.05,0.635 18.415,1.27 17.145,1.27 16.51,0.635 15.875,1.27 14.605,1.27 13.97,0.635 13.335,1.27 12.065,1.27 11.43,0.635 10.795,1.27 9.525,1.27 8.89,0.635 8.255,1.27 6.92,1.27 6.285,0.635 5.65,1.27 4.445,1.27 3.81,0.635 3.175,1.27 1.905,1.27 1.27,0.635 0.635,1.27 -0.57,1.27 -1.27,0.57 -1.27,-3.11
  text "22" at 27.178,-2.921 h0.8
  text "1" at -2.032,-0.508 h1
BottomOverlay:
  lines w0.3: -1.27,-1.27 26.67,-1.27 ; 1.27,-3.302 1.27,0.762 ; 3.81,-3.302 3.81,0.762 ; 6.35,-3.302 6.35,0.762 ; 8.89,-3.302 8.89,0.762 ; 11.43,-3.302 11.43,0.762 ; 13.97,-3.302 13.97,0.762 ; 16.51,-3.302 16.51,0.762 ; 19.05,-3.302 19.05,0.762 ; 21.59,-3.302 21.59,0.762 ; 24.13,-3.302 24.13,0.762

## A2541WR2-2A*12P [mm]
pads (24):
  round 1.6 hole 1: 1(0,0) 2(0,2.54) 3(2.54,0) 4(2.54,2.54) 5(5.08,0) 6(5.08,2.54) 7(7.62,0) 8(7.62,2.54) 9(10.16,0) 10(10.16,2.54) 11(12.7,0) 12(12.7,2.54) 13(15.24,0) 14(15.24,2.54) 15(17.78,0) 16(17.78,2.54) 17(20.32,0) 18(20.32,2.54) 19(22.86,0) 20(22.86,2.54) 21(25.4,0) 22(25.4,2.54) 23(27.94,0) 24(27.94,2.54)
TopOverlay:
  rectangle: 12.446,3.429 12.954,4.04
  rectangle: 9.906,3.429 10.414,4.04
  rectangle: 7.366,3.429 7.874,4.04
  rectangle: -0.254,3.429 0.254,4.04
  rectangle: 2.286,3.429 2.794,4.04
  rectangle: 4.826,3.429 5.334,4.04
  rectangle: 17.526,3.429 18.034,4.04
  rectangle: 14.986,3.429 15.494,4.04
  rectangle: 12.446,3.429 12.954,4.04
  rectangle: 20.066,3.429 20.574,4.04
  rectangle: 22.606,3.429 23.114,4.04
  rectangle: 25.146,3.429 25.654,4.04
  rectangle: 27.686,3.429 28.194,4.04
  region: 0.3,6.68 0.3,12.68 -0.3,12.68 -0.3,6.68
  region: 2.84,6.68 2.84,12.68 2.24,12.68 2.24,6.68
  region: 5.38,6.68 5.38,12.68 4.78,12.68 4.78,6.68
  region: 7.92,6.68 7.92,12.68 7.32,12.68 7.32,6.68
  region: 10.46,6.68 10.46,12.68 9.86,12.68 9.86,6.68
  region: 13,6.68 13,12.68 12.4,12.68 12.4,6.68
  region: 15.54,6.68 15.54,12.68 14.94,12.68 14.94,6.68
  region: 18.08,6.68 18.08,12.68 17.48,12.68 17.48,6.68
  region: 20.62,6.68 20.62,12.68 20.02,12.68 20.02,6.68
  region: 23.16,6.68 23.16,12.68 22.56,12.68 22.56,6.68
  region: 25.7,6.68 25.7,12.68 25.1,12.68 25.1,6.68
  region: 28.24,6.68 28.24,12.68 27.64,12.68 27.64,6.68
  lines w0.3: 1.27,4.521 1.651,4.14 3.429,4.14 3.81,4.521 ; 1.27,4.521 0.889,4.14 -0.889,4.14 -1.27,4.521 -1.27,6.299 -0.889,6.68 0.889,6.68 1.27,6.299 ; 1.27,4.521 1.27,6.299 ; 1.27,6.299 1.651,6.68 3.429,6.68 3.81,6.299 ; 3.81,4.521 3.81,6.299 ; 3.81,4.521 4.191,4.14 5.969,4.14 6.35,4.521 ; 3.81,6.299 4.191,6.68 5.969,6.68 6.35,6.299 ; 6.35,4.521 6.35,6.299 ; 6.35,4.521 6.731,4.14 8.509,4.14 8.89,4.521 ; 6.35,6.299 6.731,6.68 8.509,6.68 8.89,6.299 ; 8.89,4.521 8.89,6.299 ; 8.89,4.521 9.271,4.14 11.049,4.14 11.43,4.521 ; 8.89,6.299 9.271,6.68 11.049,6.68 11.43,6.299 ; 11.43,4.521 11.43,6.299 ; 11.43,4.521 11.811,4.14 13.589,4.14 13.97,4.521 ; 11.43,6.299 11.811,6.68 13.589,6.68 13.97,6.299 ; 13.97,4.521 13.97,6.299 ; 13.97,4.521 14.351,4.14 16.129,4.14 16.51,4.521 ; 13.97,6.299 14.351,6.68 16.129,6.68 16.51,6.299 ; 16.51,4.521 16.51,6.299 ; 16.51,4.521 16.891,4.14 18.669,4.14 19.05,4.521 ; 16.51,6.299 16.891,6.68 18.669,6.68 19.05,6.299 ; 19.05,4.521 19.05,6.299 ; 19.05,4.521 19.431,4.14 21.209,4.14 21.59,4.521 ; 19.05,6.299 19.431,6.68 21.209,6.68 21.59,6.299 ; 21.59,4.521 21.59,6.299 ; 21.59,4.521 21.971,4.14 23.749,4.14 24.13,4.521 ; 21.59,6.299 21.971,6.68 23.749,6.68 24.13,6.299 ; 24.13,4.521 24.13,6.299 ; 24.13,4.521 24.511,4.14 26.289,4.14 26.67,4.521 ; 24.13,6.299 24.511,6.68 26.289,6.68 26.67,6.299 ; 26.67,4.521 26.67,6.299 ; 26.67,4.521 27.051,4.14 28.829,4.14 29.21,4.521 29.21,6.299 28.829,6.68 27.051,6.68 26.67,6.299
  text "1" at -1.524,-0.254 h0.8
  text "24" at 29.21,2.286 h0.8
BottomOverlay:
  lines w0.3: -1.27,1.27 29.21,1.27 ; 1.27,-0.762 1.27,3.302 ; 3.81,-0.762 3.81,3.302 ; 6.35,-0.762 6.35,3.302 ; 8.89,-0.762 8.89,3.302 ; 11.43,-0.762 11.43,3.302 ; 13.97,-0.762 13.97,3.302 ; 16.51,-0.762 16.51,3.302 ; 19.05,-0.762 19.05,3.302 ; 21.59,-0.762 21.59,3.302 ; 24.13,-0.762 24.13,3.302 ; 26.67,-0.762 26.67,3.302

## A2541WR2-2A*12P-M [mm]
pads (24):
  round 1.6 hole 1: 1(0,0) 2(0,-2.54) 3(2.54,0) 4(2.54,-2.54) 5(5.08,0) 6(5.08,-2.54) 7(7.62,0) 8(7.62,-2.54) 9(10.16,0) 10(10.16,-2.54) 11(12.7,0) 12(12.7,-2.54) 13(15.24,0) 14(15.24,-2.54) 15(17.78,0) 16(17.78,-2.54) 17(20.32,0) 18(20.32,-2.54) 19(22.86,0) 20(22.86,-2.54) 21(25.4,0) 22(25.4,-2.54) 23(27.94,0) 24(27.94,-2.54)
TopOverlay:
  lines w0.3: -1.27,-3.11 -0.57,-3.81 0.635,-3.81 1.27,-3.175 1.905,-3.81 3.175,-3.81 3.81,-3.175 4.445,-3.81 5.65,-3.81 6.285,-3.175 6.92,-3.81 8.255,-3.81 8.89,-3.175 9.525,-3.81 10.795,-3.81 11.43,-3.175 12.065,-3.81 13.335,-3.81 13.97,-3.175 14.605,-3.81 15.875,-3.81 16.51,-3.175 17.145,-3.81 18.415,-3.81 19.05,-3.175 19.685,-3.81 20.955,-3.81 21.59,-3.175 22.225,-3.81 23.495,-3.81 24.13,-3.175 24.765,-3.81 26.035,-3.81 26.67,-3.175 27.305,-3.81 28.575,-3.81 29.21,-3.175 29.21,0.635 28.575,1.27 27.305,1.27 26.67,0.635 26.035,1.27 24.765,1.27 24.13,0.635 23.495,1.27 22.225,1.27 21.59,0.635 20.955,1.27 19.685,1.27 19.05,0.635 18.415,1.27 17.145,1.27 16.51,0.635 15.875,1.27 14.605,1.27 13.97,0.635 13.335,1.27 12.065,1.27 11.43,0.635 10.795,1.27 9.525,1.27 8.89,0.635 8.255,1.27 6.92,1.27 6.285,0.635 5.65,1.27 4.445,1.27 3.81,0.635 3.175,1.27 1.905,1.27 1.27,0.635 0.635,1.27 -0.57,1.27 -1.27,0.57 -1.27,-3.11
  text "24" at 29.591,-2.921 h0.8
  text "1" at -2.032,-0.508 h1
BottomOverlay:
  lines w0.3: -1.27,-1.27 29.21,-1.27 ; 1.27,-3.302 1.27,0.762 ; 3.81,-3.302 3.81,0.762 ; 6.35,-3.302 6.35,0.762 ; 8.89,-3.302 8.89,0.762 ; 11.43,-3.302 11.43,0.762 ; 13.97,-3.302 13.97,0.762 ; 16.51,-3.302 16.51,0.762 ; 19.05,-3.302 19.05,0.762 ; 21.59,-3.302 21.59,0.762 ; 24.13,-3.302 24.13,0.762 ; 26.67,-3.302 26.67,0.762